# Altium footprint library Capacitors.PcbLib: 2 footprints
Each footprint in its own frame and in the unit in brackets; x right, y up, seen from the top. Pads: shape width x height; smd on the part's side, far side on the other; paste and mask are expansions set on the pad; w line width, h text height; cw(c..) or ccw(c..) is an arc to the next point about the centre after c.
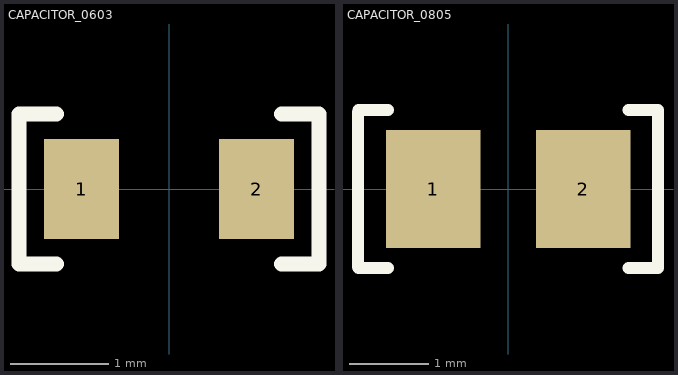
[diagram p0: the footprints below, top view; thin cyan lines are the x and y axes]

## CAPACITOR_0603 [mil] "CAPACITOR 0603"
pads (2):
  rect 30x40 smd: 1(-35,0) 2(35,0)
Top Overlay:
  lines w6: -45,-30 -60,-30 -60,30 -45,30 ; 45,-30 60,-30 60,30 45,30
3D body "Capcap.SLDPRT": height 31.5, standoff 0, extent -31.49,-15.74 31.5,15.75

## CAPACITOR_0805 [mm] "CAPACITOR 0805"
pads (2):
  rect 1.2x1.5 smd: 1(-0.95,0) 2(0.95,0)
Top Overlay:
  lines w0.152: -1.905,-0.988 -1.905,0.978 ; -1.9,-1 -1.524,-1 ; -1.9,1 -1.524,1 ; 1.524,-1 1.9,-1 1.9,1 1.524,1
3D body "User Library-Ceramic_Capacitor_0805_h50mil.STEP": height 1.26, standoff 0.01, extent -1,-0.625 1,0.625